# Altium footprint library MainBoard.PcbLib: 34 footprints (part 3 of 3)
Each footprint in its own frame and in the unit in brackets; x right, y up, seen from the top. Pads: shape width x height; smd on the part's side, far side on the other; paste and mask are expansions set on the pad; w line width, h text height; cw(c..) or ccw(c..) is an arc to the next point about the centre after c.
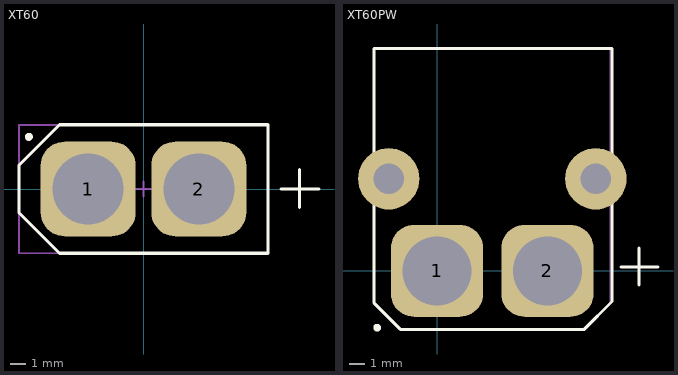
[diagram p2: the footprints below, top view; thin cyan lines are the x and y axes]

## XT60 [mm]
pads (2):
  rrect50% 6x6 hole 4.5: 1(-3.5,0) 2(3.5,0)
Top Overlay:
  circle w0.25: c-7.25,3.3 r0.125
  lines w0.2: 7.863,-4.038 7.875,-4.025 7.875,4.05 ; 7.87,-4.06 -5.315,-4.06 -7.875,-1.5 -7.875,1.5 -5.315,4.06 7.87,4.06 ; 8.7,0 11.1,0 ; 9.875,-1.175 9.875,1.225
Mechanical 13:
  lines w0.1: -7.875,-4.075 7.875,-4.075 7.875,4.05 -7.875,4.05 -7.875,-4.075
Mechanical 15:
  lines w0.05: -7.875,-4.05 7.875,-4.05 7.875,4.075 -7.875,4.075 -7.875,-4.05
  lines w0.1: -0.5,0 0.5,0 ; 0,-0.5 0,0.5
3D body: height 16, standoff 0.51, extent -7.9,-4.075 7.875,4.05

## XT60PW [mm]
pads (4):
  rrect50% 6x6 hole 4.5: 1(0,0) 2(7.2,0)
  round 4 hole 2: ""(-3.15,6) ""(10.35,6)
Top Overlay:
  circle w0.25: c-3.9,-3.7 r0.125
  lines w0.2: 12.002,0.254 14.402,0.254 ; 13.177,-0.921 13.177,1.479 ; -4.1,-2.1 -2.394,-3.806 9.594,-3.806 11.4,-2 11.4,14.5 -4.1,14.5 -4.1,-2.1
Mechanical 13:
  lines w0.1: -4.1,-2.1 -4.1,14.5 11.4,14.5 11.4,-2 9.579,-3.821 -2.379,-3.821 -4.1,-2.1
Mechanical 15:
  lines w0.05: -4.1,-2.1 -4.1,14.5 11.3,14.5 11.3,-2.1 9.604,-3.796 -2.404,-3.796 -4.1,-2.1
3D body: height 8, standoff 0.6, extent -4,-3.75 11.25,14.5